# EAGLE library part SRC4190IDBR (library Sparky)
The SRC4190 device is an asynchronous sample rate converter designed for professional and broadcast audio applications. The SRC4190 combines a wide input-to-output sampling ratio with outstanding dynamic range and low distortion. Input and output serial ports support standard audio formats, as well as a Time Division Multiplexed (TDM) mode. Flexible audio interfaces allow the SRC4190 to connect to a wide range of audio data converters, digital audio receivers and transmitters, and digital signal processors.
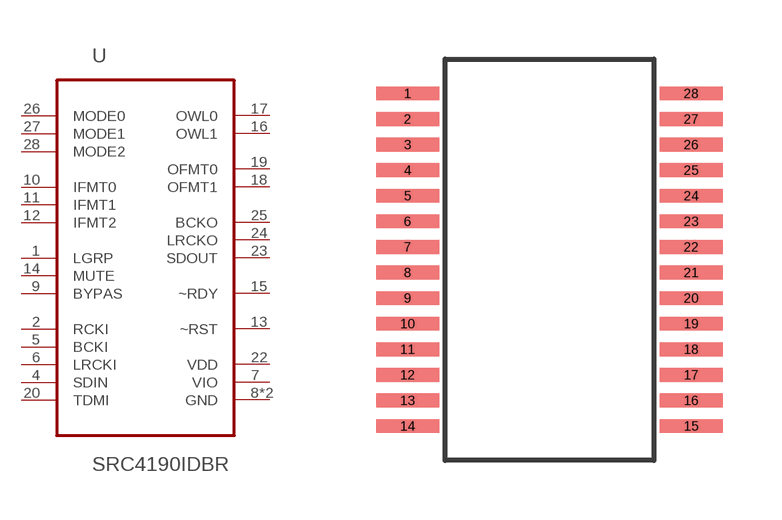
[diagram p17: symbol with the pads of SSOP-28; footprint SSOP-28]

Designator prefix U

## SRC4190IDBR28-SSOP (AVAILABILITY: Good; DESCRIPTION: IC 192KHZ SAMPL RATE CONV 28SSOP; MF: Texas Instruments; MP: SRC4190IDBR; PACKAGE: SSOP-28 Texas Instruments; PRICE: 4.86 USD)  [SSOP-28]
1  LGRP  in
2  RCKI  in
4  SDIN
5  BCKI
6  LRCKI
7  VIO  pwr
8  GND  pas
9  BYPAS  in
10  IFMT0  in
11  IFMT1  in
12  IFMT2  in
13  ~RST  in
14  MUTE  in
15  ~RDY  out
16  OWL1  in
17  OWL0  in
18  OFMT1  in
19  OFMT0  in
20  TDMI
21  GND  pas
22  VDD  pwr
23  SDOUT
24  LRCKO
25  BCKO
26  MODE0  in
27  MODE1  in
28  MODE2  in

## Footprint SSOP-28 (pad centres in mm)
smd 1.6 x 0.35: 1 -3.6,4.225; 2 -3.6,3.575; 3 -3.6,2.925; 4 -3.6,2.275; 5 -3.6,1.625; 6 -3.6,0.975; 7 -3.6,0.325; 8 -3.6,-0.325; 9 -3.6,-0.975; 10 -3.6,-1.625; 11 -3.6,-2.275; 12 -3.6,-2.925; 13 -3.6,-3.575; 14 -3.6,-4.225; 15 3.6,-4.225; 16 3.6,-3.575; 17 3.6,-2.925; 18 3.6,-2.275; 19 3.6,-1.625; 20 3.6,-0.975; 21 3.6,-0.325; 22 3.6,0.325; 23 3.6,0.975; 24 3.6,1.625; 25 3.6,2.275; 26 3.6,2.925; 27 3.6,3.575; 28 3.6,4.225